# Altium footprint library SmartHome V3.PcbLib: 49 footprints (part 3 of 4)
Each footprint in its own frame and in the unit in brackets; x right, y up, seen from the top. Pads: shape width x height; smd on the part's side, far side on the other; paste and mask are expansions set on the pad; w line width, h text height; cw(c..) or ccw(c..) is an arc to the next point about the centre after c.
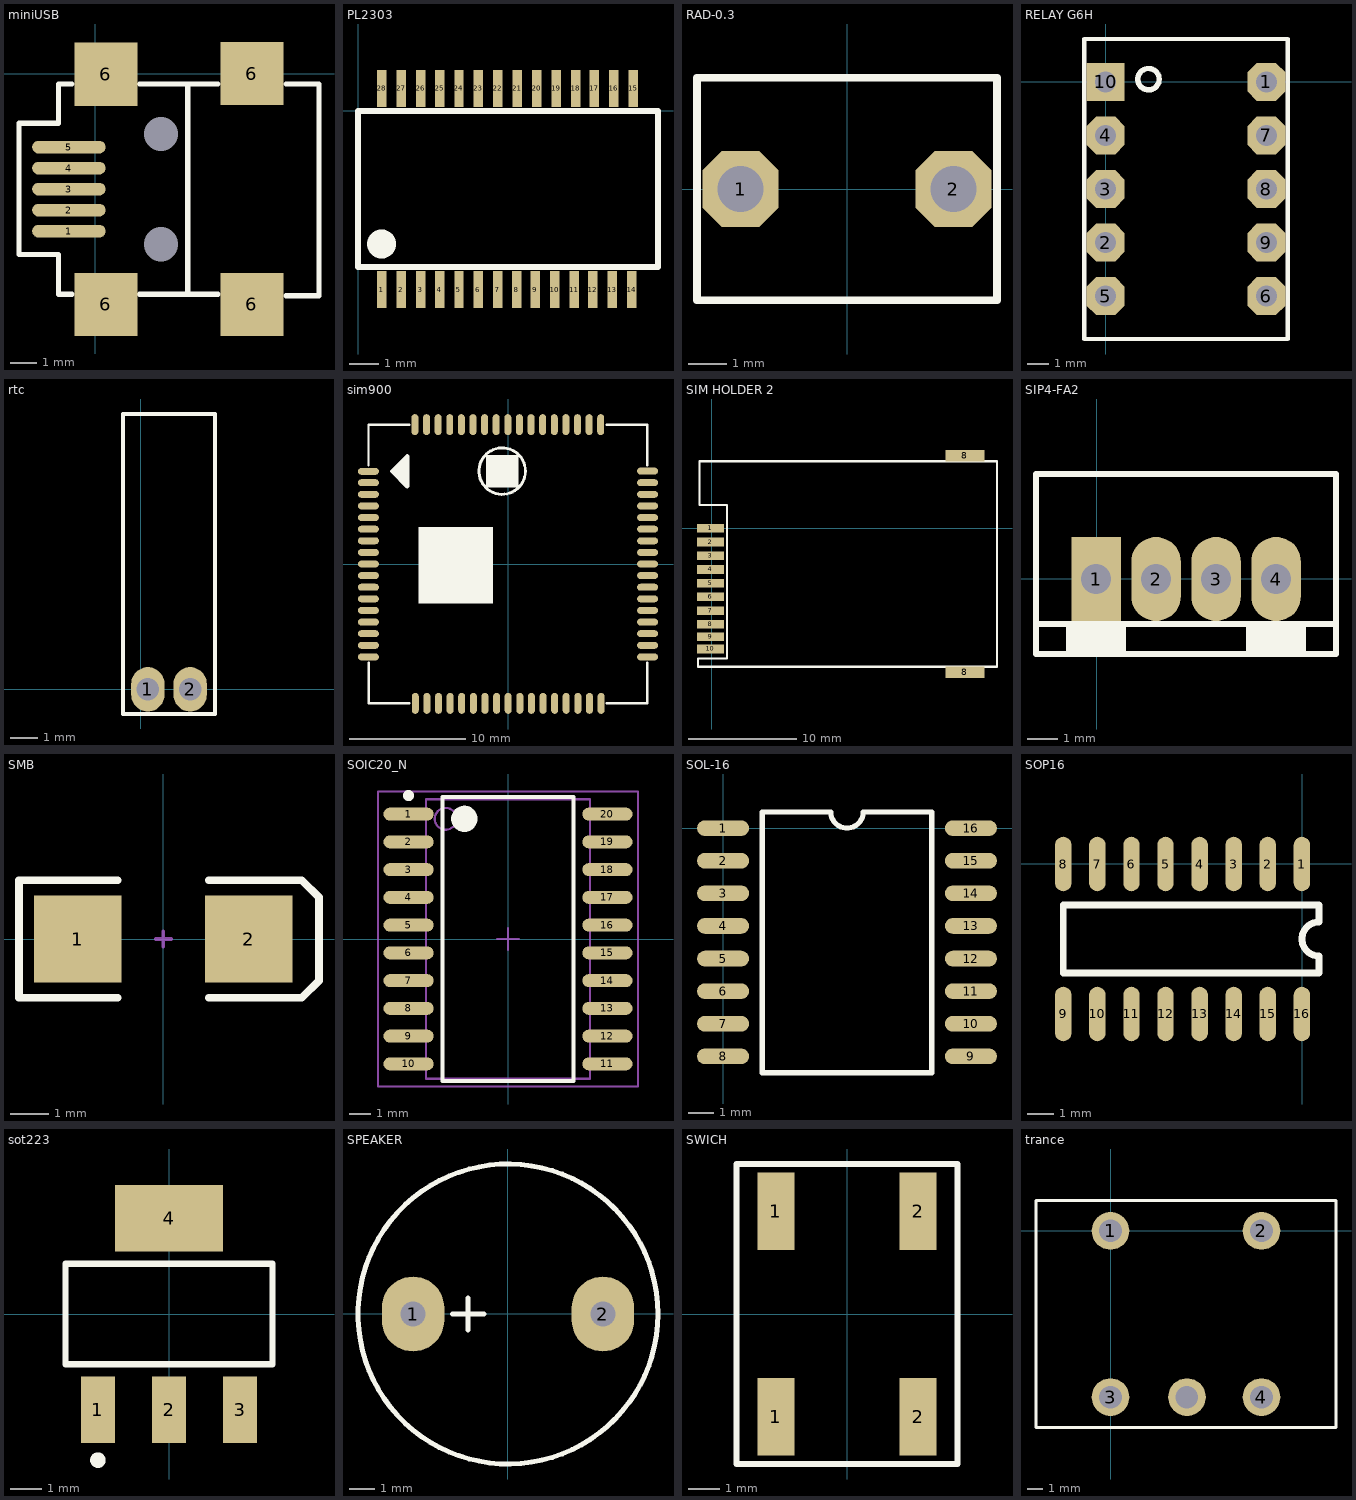
[diagram p2: the footprints below, top view; thin cyan lines are the x and y axes]

## miniUSB [mm]
pads (11):
  oval 2.8x0.483 smd: 1(-1,-6) 2(-1,-5.2) 3(-1,-4.4) 4(-1,-3.6) 5(-1,-2.8)
  rect 2.4x2.4 smd: 6(0.406,-8.788) 6(0.406,-0.025) 6(5.969,-8.788) 6(5.969,0)
  round 0 hole 1.3: ""(2.5,-6.5) ""(2.5,-2.3)
Top Overlay:
  lines w0.2: -0.889,-8.4 -1.4,-8.4 -1.4,-6.892 -2.9,-6.892 -2.9,-1.892 -1.4,-1.892 -1.4,-0.4 -0.889,-0.4 ; 1.702,-8.4 3.521,-8.4 ; 1.702,-0.4 4.674,-0.4 ; 3.521,-0.4 3.521,-8.4 ; 4.674,-8.4 3.521,-8.4 ; 7.264,-8.456 8.511,-8.456 ; 7.264,-0.4 8.523,-0.4 8.523,-8.444

## PL2303 [mm]
pads (28):
  rect 0.32x1.25 smd: 1(0.813,-6.071) 2(1.473,-6.071) 3(2.134,-6.071) 4(2.769,-6.071) 5(3.429,-6.071) 6(4.089,-6.071) 7(4.75,-6.071) 8(5.385,-6.071) 9(6.02,-6.071) 10(6.68,-6.071) 11(7.341,-6.071) 12(7.976,-6.071) 13(8.636,-6.071) 14(9.296,-6.071) 15(9.347,0.762) 16(8.687,0.762) 17(8.026,0.762) 18(7.391,0.762) 19(6.731,0.762) 20(6.071,0.762) 21(5.41,0.762) 22(4.75,0.762) 23(4.089,0.762) 24(3.429,0.762) 25(2.769,0.762) 26(2.134,0.762) 27(1.473,0.762) 28(0.813,0.762)
Top Overlay:
  circle w0.6: c0.8,-4.521 r0.191
  lines w0.2: 0,-5.309 0,0 10.185,0 10.185,-5.309 0,-5.309

## RAD-0.3 [mm] "Capacitor; 2 Leads"
height 6
pads (2):
  oct 2x2 hole 1.2: 1(-2.794,0) 2(2.794,0)
Top Overlay:
  lines w0.2: -3.937,-2.921 3.937,-2.921 3.937,2.921 -3.937,2.921 -3.937,-2.921

## RELAY G6H [mm]
pads (10):
  oct 1.8x1.8 hole 1: 1(7.62,0) 2(0,-7.62) 3(0,-5.08) 4(0,-2.54) 5(0,-10.16) 6(7.62,-10.16) 7(7.62,-2.54) 8(7.62,-5.08) 9(7.62,-7.62)
  rect 1.8x1.8 hole 1: 10(0,0)
Top Overlay:
  circle w0.254: c2.032,0.127 r0.508
  lines w0.2: -1.016,-12.192 8.636,-12.192 8.636,2.032 -1.016,2.032 -1.016,-12.192

## rtc [mm]
pads (2):
  oval 1.2x1.6 hole 0.8: 1(0.254,0) 2(1.778,0)
Top Overlay:
  lines w0.15: -0.635,-0.889 -0.635,9.906 2.667,9.906 2.667,-0.889 -0.635,-0.889

## sim900 [mm]
pads (68):
  oval 1.8x0.6 smd mask+0.102: 1(-12.016,7.981) 2(-12.016,7) 3(-12.016,6) 4(-12.016,5) 5(-12.016,4) 6(-12.016,3) 7(-12.016,2) 8(-12.016,1) 9(-12.016,0) 10(-12.016,-1) 11(-12.016,-2) 12(-12.016,-3) 13(-12.016,-4) 14(-12.016,-5) 15(-12.016,-6) 16(-12.016,-7) 17(-12.016,-8) 35(12.016,-8) 36(12.016,-7) 37(12.016,-6) 38(12.016,-5) 39(12.016,-4) 40(12.016,-3) 41(12.016,-2) 42(12.016,-1) 43(12.016,0) 44(12.016,1) 45(12.016,1.994) 46(12.016,3) 47(12.016,4) 48(12.016,5) 49(12.016,6) 50(12.016,7) 51(12.016,8)
  oval 0.6x1.8 smd mask+0.102: 18(-7.984,-12) 19(-6.984,-12) 20(-5.984,-12) 21(-4.984,-12) 22(-3.984,-12) 23(-2.984,-12) 24(-1.985,-12) 25(-0.985,-12) 26(0.015,-12) 27(1.015,-12) 28(2.015,-12) 29(3.015,-12) 30(4.015,-12) 31(5.011,-12) 32(6.015,-12) 33(7.015,-12) 34(8.015,-12) 52(7.984,12) 53(6.984,12) 54(5.984,12) 55(4.984,12) 56(3.984,12) 57(2.984,12) 58(1.985,12) 59(0.985,12) 60(-0.015,12) 61(-1.015,12) 62(-2.015,12) 63(-3.015,12) 64(-4.015,12) 65(-5.015,12) 66(-6.015,12) 67(-7.015,12) 68(-8.015,12)
Top Overlay:
  circle w0.254: c-0.5,8 r2
  rectangle: -1.9,6.6 0.9,9.4
  rectangle: -7.7,-3.4 -1.3,3.2
  lines w0.2: -12.016,8.509 -12.016,12 ; -12,-8.509 -12,-12 -8.509,-12 ; -11.984,12 -8.509,12 ; 8.509,-12 12,-12 12,-8.509 ; 8.509,12 11.965,12 ; 12,8.509 12,11.984
  lines w0.4: -9.432,7.474 -9.432,8.44 ; -9.046,7.099 -9.046,8.877 ; -8.67,7.982 -9.94,7.982 ; -9.94,7.982 -8.67,9.252 -8.67,6.712 -9.94,7.982 ; -7.285,-2.8 -7.285,2.8 -1.684,2.8 -1.684,-2.8 -7.285,-2.8

## SIM HOLDER 2 [mm]
pads (12):
  rect 2.5x0.8 smd: 1(-0.127,0) 2(-0.127,-1.27) 3(-0.127,-2.54) 4(-0.127,-3.81) 5(-0.127,-5.08) 6(-0.127,-6.35) 7(-0.127,-7.62) 8(-0.127,-8.89) 9(-0.127,-10.033) 10(-0.127,-11.176)
  rect 3.6x1.1 smd: 8(23.444,-13.335) 8(23.444,6.731)
Top Overlay:
  lines w0.2: -1.27,-12.827 -1.27,-12.065 1.397,-12.065 1.397,2.159 -1.143,2.159 -1.143,6.223 26.416,6.223 26.416,-12.827 -1.27,-12.827

## SIP4-FA2 [mm]
pads (4):
  rect 1.651x2.8 hole 1: 1(-0.022,-0.01)
  oval 1.651x2.8 hole 1: 2(1.978,-0.01) 3(3.978,-0.01) 4(5.978,-0.01)
Top Overlay:
  region: 6.972,-1.509 4.972,-1.509 4.972,-2.509 6.972,-2.509
  region: 0.978,-1.51 -1.022,-1.51 -1.022,-2.51 0.978,-2.51
  lines w0.2: -2.022,-1.51 7.972,-1.51 ; -2.022,-2.51 7.972,-2.51 7.972,3.49 -2.022,3.49 -2.022,-2.51

## SMB [mm] "DO-214-AA/SMB; 2 C-Bend Leads; Body 5.3 x 3.6 mm, inc. leads (LxW)"
height 2.54
pads (2):
  rect 2.3x2.3 smd: 1(-2.25,0) 2(2.25,0)
Top Overlay:
  lines w0.2: -1.2,-1.55 -3.8,-1.55 -3.8,1.55 -1.2,1.55 ; 1.2,-1.55 3.65,-1.55 4.1,-1.1 4.1,1.1 3.65,1.55 1.2,1.55
Mechanical 1:
  lines w0.1: -0.2,0 0.2,0 ; 0,-0.2 0,0.2

## SOIC20_N [mm] "SOIC, 20-Leads, Body 12.8x7.6mm, Pitch 1.27mm, IPC Medium Density"
height 2.65
pads (20):
  oval 2.3x0.6 smd: 1(-4.55,5.715) 2(-4.55,4.445) 3(-4.55,3.175) 4(-4.55,1.905) 5(-4.55,0.635) 6(-4.55,-0.635) 7(-4.55,-1.905) 8(-4.55,-3.175) 9(-4.55,-4.445) 10(-4.55,-5.715) 11(4.55,-5.715) 12(4.55,-4.445) 13(4.55,-3.175) 14(4.55,-1.905) 15(4.55,-0.635) 16(4.55,0.635) 17(4.55,1.905) 18(4.55,3.175) 19(4.55,4.445) 20(4.55,5.715)
Top Overlay:
  circle w0.25: c-4.55,6.565 r0.125
  circle w0.6: c-2,5.5 r0.3
  lines w0.2: -3,-6.5 -3,6.5 3,6.5 3,-6.5 -3,-6.5
Mechanical 13:
  circle w0.1: c-2.85,5.5 r0.5
  lines w0.1: -3.75,-6.4 -3.75,6.4 3.75,6.4 3.75,-6.4 -3.75,-6.4
Mechanical 15:
  lines w0.1: -0.5,0 0.5,0 ; 0,-0.5 0,0.5 ; -5.95,-6.75 -5.95,6.75 5.95,6.75 5.95,-6.75 -5.95,-6.75
3D body: height 2.65, standoff 0, extent -3.75,-6.4 3.75,6.4

## SOL-16 [mil]
pads (16):
  oval 80x24 smd: 1(0,0) 2(0,-50) 3(0,-100) 4(0,-150) 5(0,-200) 6(0,-250) 7(0,-300) 8(0,-350) 9(380,-350) 10(380,-300) 11(380,-250) 12(380,-200) 13(380,-150) 14(380,-100) 15(380,-50) 16(380,0)
Top Overlay:
  lines w7.87: 60,-375 60,25 165,25 ccw(c190,25) 215,25 320,25 320,-375 60,-375

## SOP16 [mil]
pads (16):
  oval 24x80 smd: 1(-0.42,-0.24) 2(-50.42,-0.24) 3(-100.42,-0.24) 4(-150.42,-0.24) 5(-200.42,-0.24) 6(-250.42,-0.24) 7(-300.42,-0.24) 8(-350.42,-0.24) 9(-350.42,-220.24) 10(-300.42,-220.24) 11(-250.42,-220.24) 12(-200.42,-220.24) 13(-150.42,-220.24) 14(-100.42,-220.24) 15(-50.42,-220.24) 16(-0.42,-220.24)
Top Overlay:
  lines w10: -350.42,-160.24 24.58,-160.24 24.58,-135.24 cw(c24.58,-110.24) 24.58,-85.24 24.58,-60.24 -350.42,-60.24 -350.42,-160.24

## sot223 [mm] "SOT-223/SC-73; 4 Leads; Body 6.7 x 7.3 mm, inc. leads (LxW max)"
height 1.8
pads (4):
  rect 1.1x2.15 smd: 1(-2.3,-3.1) 2(0,-3.1) 3(2.3,-3.1)
  rect 3.5x2.15 smd: 4(0,3.1)
Top Overlay:
  circle w0.25: c-2.3,-4.725 r0.125
  lines w0.2: -3.35,-1.625 -3.35,1.625 3.35,1.625 3.35,-1.625 -3.35,-1.625

## SPEAKER [mm]
pads (2):
  oval 2.5x3 hole 1: 1(-3.796,-0.001) 2(3.804,-0.001)
Top Overlay:
  circle w0.2: c0.004,-0.001 r6
  lines w0.2: -2.222,0 -0.953,0 ; -1.587,-0.635 -1.587,0.635

## SWICH [mm]
pads (4):
  rect 1.2x2.5 smd: 1(-2.286,-3.302) 1(-2.286,3.302) 2(2.286,-3.302) 2(2.286,3.302)
Top Overlay:
  lines w0.2: -3.556,-4.826 3.556,-4.826 3.556,4.826 -3.556,4.826 -3.556,-4.826

## trance [mm]
pads (5):
  round 2.5 hole 1.5: 1(0,0) 2(10.033,0) 3(0,-11.049) 4(10.033,-11.049) ""(5.08,-11.049)
Top Overlay:
  lines w0.2: -4.953,-13.081 -4.953,2.032 14.986,2.032 14.986,-13.081 -4.953,-13.081